# Altium integrated library Allegro Automotive Ignition Circuit.IntLib: 2 symbols
Pins are listed as number, name and electrical type; pins without a type are passive.

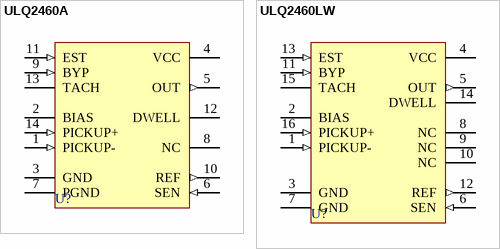
[diagram p0: symbols ULQ2460A to ULQ2460LW]

## ULQ2460A
designator U?
Electronic Ignition Timing; Published: 13-Oct-2000; LatestRevisionDate: 06-Jun-2005; LatestRevisionNote: Stylized 3D Model Added.; DatasheetVersion: 1995; PackageVersion: 1995; PackageReference: A14; Publisher: Altium Limited; PackageDescription: DIP; 14 Leads; Row Spacing 7.62 mm; Pitch 2.54 mm; ComponentLink1Description: Manufacturer Link; ComponentLink1URL: http://www.allegromicro.com/
footprint A14 (DIP; 14 Leads; Row Spacing 7.62 mm; Pitch 2.54 mm)
3D model A14 (DIP; 14 Leads; Row Spacing 7.62 mm; Pitch 2.54 mm)
pins: 1 PICKUP- (in), 2 BIAS, 3 GND (power), 4 VCC (power), 5 OUT (out), 6 SEN (in), 7 PGND (power), 8 NC, 9 BYP (in), 10 REF (out), 11 EST (in), 12 DWELL, 13 TACH, 14 PICKUP+ (in)

## ULQ2460LW
designator U?
Electronic Ignition Timing; Published: 13-Oct-2000; LatestRevisionDate: 13-Apr-2006; LatestRevisionNote: IPC-7351 Footprint Added.; DatasheetVersion: 1995; PackageVersion: 1995; PackageReference: LW16; Publisher: Altium Limited; PackageDescription: 16-Pin Small Outline Integrated Circuit 1.27 mm Pitch; Code_JEDEC: MS-013-AA; Code_IPC: SOIC127P1030-16; ComponentLink1Description: Manufacturer Link; ComponentLink1URL: http://www.allegromicro.com/
footprint LW16_N (SOIC, 16-Leads, Body 10.3x7.5mm, Pitch 1.27mm, IPC Medium Density)
footprint LW16_L (SOIC, 16-Leads, Body 10.3x7.5mm, Pitch 1.27mm, IPC High Density)
footprint LW16_M (SOIC, 16-Leads, Body 10.3x7.5mm, Pitch 1.27mm, IPC Low Density)
3D model LW16 (16-Pin Small Outline Integrated Circuit 1.27 mm Pitch)
pins: 1 PICKUP- (in), 2 BIAS, 3 GND (power), 4 VCC (power), 5 OUT (out), 6 SEN (in), 7 GND (power), 8 NC, 9 NC, 10 NC, 11 BYP (in), 12 REF (out), 13 EST (in), 14 DWELL, 15 TACH, 16 PICKUP+ (in)